# EAGLE library part SPARKFUN-RGB-AND-GESTURE-SENSOR-APDS-9960 (library Modules)
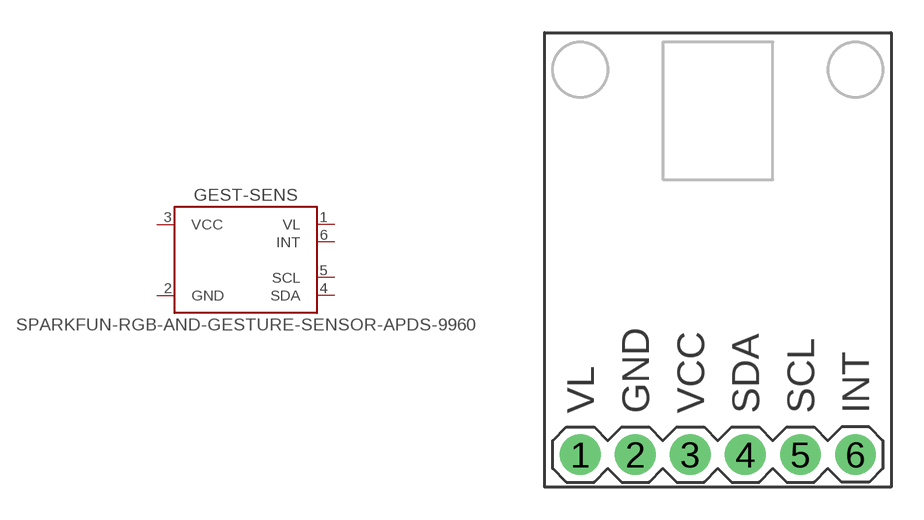
[diagram p3: symbol with the pads of SPARKFUN-RGB-AND-GESTURE-SENSOR-APDS-9960; footprint SPARKFUN-RGB-AND-GESTURE-SENSOR-APDS-9960]

Designator prefix GEST-SENS

## SPARKFUN-RGB-AND-GESTURE-SENSOR-APDS-9960  [SPARKFUN-RGB-AND-GESTURE-SENSOR-APDS-9960]
1  VL
2  GND  pwr
3  VCC  pwr
4  SDA
5  SCL
6  INT

## Footprint SPARKFUN-RGB-AND-GESTURE-SENSOR-APDS-9960 (pad centres in mm)
drill 1 pad 1.88: 1 -6.35,0; 2 -3.81,0; 3 -1.27,0; 4 1.27,0; 5 3.81,0; 6 6.35,0